# EAGLE library part 1-1415899-6 (library Relays)
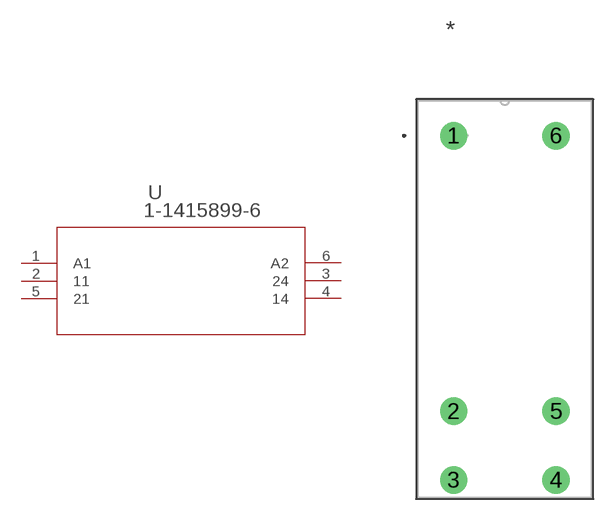
[diagram p32: symbol with the pads of RELAY-SPST2_5MM; footprint RELAY-SPST2_5MM]

Designator prefix U

## 1-1415899-6 (BUILT_BY: EMA_UL_Team; CATEGORY: Power Relays; COPYRIGHT: Copyright (C) 2016 Accelerated Designs. All rights reserved; DESCRIPTION: RZ03-1A4-D012; MANUFACTURER_PART_NUMBER: 1-1415899-6; PART_STATUS: active; SERIES: SCHRACK Power PCB Relay RZ; VENDOR: TE Connectivity)  [RELAY-SPST2_5MM]
1  A1  pas
2  11  pas
3  24  pas
4  14  pas
5  21  pas
6  A2  pas

## Footprint RELAY-SPST2_5MM (pad centres in mm)
drill 1.295 pad 2.007: 1 -7.493,23.927; 2 -7.493,3.759; 3 -7.493,-1.27; 4 0,-1.27; 5 0,3.759; 6 0,23.927